# Altium schematic symbol library ti-linear.SchLib: 2 symbols
Pins are listed as number, name and electrical type; pins without a type are passive.

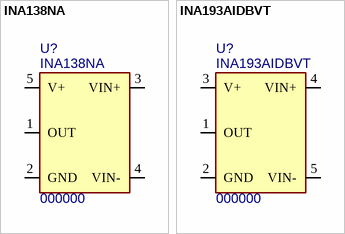
[diagram p0: symbols INA138NA to INA193AIDBVT]

## INA138NA
designator U?, comment 000000  value INA138NA
High-Side Measurement  CURRENT SHUNT MONITOR; Package: SOT23-5; PN: 000000; ExtraInfo: *
footprint DBV (R-PDSO-G5) (SOT23, 5-Leads, Body 3.0x3.0mm (max), Pitch 0.95mm, IPC High Density)
simulation model INA138 (TITLE=ZXCT1010 MACROMODEL)
pins: 1 OUT, 2 GND (power), 3 VIN+, 4 VIN-, 5 V+ (power)

## INA193AIDBVT
designator U?, comment 000000  value INA193AIDBVT
Voltage Output High-Side Measurement Current Shunt Monitor; Package: SOT23-5; PN: 000000; ExtraInfo: *
footprint DBV (R-PDSO-G5) (SOT23, 5-Leads, Body 3.0x3.0mm (max), Pitch 0.95mm, IPC High Density)
simulation model INA193 (TITLE=ZXCT1010 MACROMODEL)
pins: 1 OUT, 2 GND (power), 3 V+ (power), 4 VIN+, 5 VIN-